# Altium footprint library lib_invensense.PcbLib: 3 footprints
Each footprint in its own frame and in the unit in brackets; x right, y up, seen from the top. Pads: shape width x height; smd on the part's side, far side on the other; paste and mask are expansions set on the pad; w line width, h text height; cw(c..) or ccw(c..) is an arc to the next point about the centre after c.
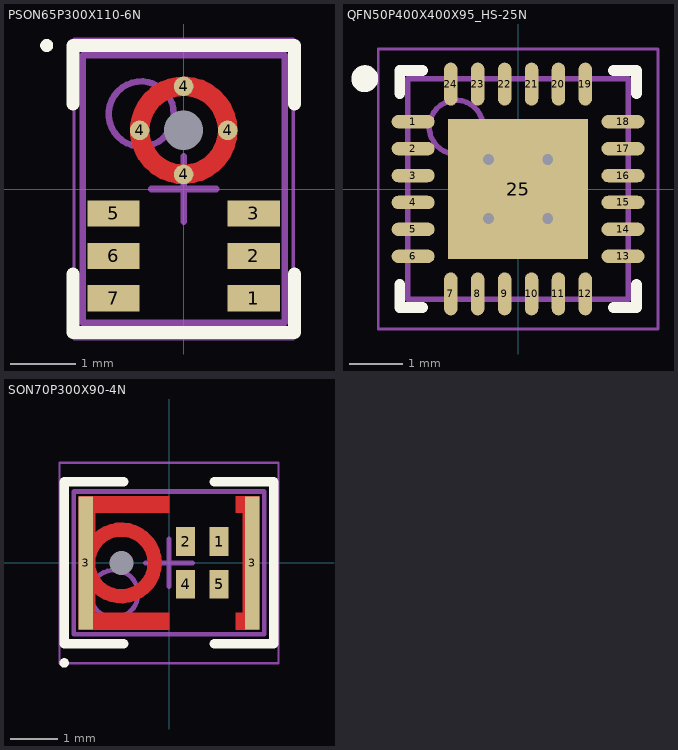
[diagram p0: the footprints below, top view; thin cyan lines are the x and y axes]

## PSON65P300X110-6N [mm] "PSON, 6-Leads, Body 4,00x3,00mm, Pitch 0,65mm, IPC Medium Density"
height 1.1
pads (11):
  rect 0.8x0.4 smd: 1(1.075,-1.675) 2(1.075,-1.025) 3(1.075,-0.375) 5(-1.075,-0.375) 6(-1.075,-1.025) 7(-1.075,-1.675)
  round 0.3 smd: 4(-0.675,0.9) 4(0,0.225) 4(0,1.575) 4(0.675,0.9)
  round 0 hole 0.6: PORT(0,0.9)
Top Layer:
  circle w0.3: c0,0.9 r0.675
Top Overlay:
  circle w0.1: c-2.1,2.2 r0.05
  lines w0.2: -1.7,-1.3 -1.7,-2.2 1.7,-2.2 1.7,-1.3 ; -1.7,1.3 -1.7,2.2 1.7,2.2 1.7,1.3
Mechanical 13:
  circle w0.1: c-0.65,1.15 r0.5
  lines w0.1: -1.55,-2.05 1.55,-2.05 1.55,2.05 -1.55,2.05 -1.55,-2.05
Mechanical 15:
  lines w0.05: -1.68,-2.3 1.68,-2.3 1.68,2.3 -1.68,2.3 -1.68,-2.3
  lines w0.1: -0.5,0 0.5,0 ; 0,-0.5 0,0.5
3D body: height 1.1, standoff 0, extent -1.55,-2.05 1.55,2.05

## QFN50P400X400X95_HS-25N [mm] "QFN, 24-Leads, Body 4.00x4.00mm, Pitch 0.50mm, Thermal Pad 2.60x2.70mm, IPC Medium Density"
height 0.95
pads (25):
  oval 0.8x0.25 smd: 1(-1.95,1.25) 2(-1.95,0.75) 3(-1.95,0.25) 4(-1.95,-0.25) 5(-1.95,-0.75) 6(-1.95,-1.25) 13(1.95,-1.25) 14(1.95,-0.75) 15(1.95,-0.25) 16(1.95,0.25) 17(1.95,0.75) 18(1.95,1.25)
  oval 0.25x0.8 smd: 7(-1.25,-1.95) 8(-0.75,-1.95) 9(-0.25,-1.95) 10(0.25,-1.95) 11(0.75,-1.95) 12(1.25,-1.95) 19(1.25,1.95) 20(0.75,1.95) 21(0.25,1.95) 22(-0.25,1.95) 23(-0.75,1.95) 24(-1.25,1.95)
  rect 2.6x2.6 smd: 25(0,0)
via 0.55,-0.55 diameter 0.5 hole 0.2
via -0.55,-0.55 diameter 0.5 hole 0.2
via 0.55,0.55 diameter 0.5 hole 0.2
via -0.55,0.55 diameter 0.5 hole 0.2
Top Overlay:
  circle w0.25: c-2.85,2.05 r0.125
  lines w0.2: -2.2,-1.775 -2.2,-2.2 -1.775,-2.2 ; -2.2,1.775 -2.2,2.2 -1.775,2.2 ; 1.775,-2.2 2.2,-2.2 2.2,-1.775 ; 1.775,2.2 2.2,2.2 2.2,1.775
Mechanical 13:
  circle w0.1: c-1.15,1.15 r0.5
  lines w0.1: -2.05,-2.05 2.05,-2.05 2.05,2.05 -2.05,2.05 -2.05,-2.05
Mechanical 15:
  lines w0.05: -2.6,-2.6 2.6,-2.6 2.6,2.6 -2.6,2.6 -2.6,-2.6
  lines w0.1: -0.5,0 0.5,0 ; 0,-0.5 0,0.5
3D body "QFN50P400X400X95_HS-25N.step": height 0.95, standoff 0, extent -2.1,-2.1 2.1,2.1

## SON70P300X90-4N [mm] "SON, 4-Leads, Body 4,00x3,00mm, Pitch 0,70mm, IPC Medium Density"
height 0.9
pads (7):
  round 0 hole 0.5 unplated: 0(-1,0)
  rect 0.4x0.6 smd: 1(1.05,0.45) 2(0.35,0.45) 4(0.35,-0.45) 5(1.05,-0.45)
  rect 0.3x2.8 smd: 3(-1.75,0) 3(1.75,0)
Top Layer:
  circle w0.3: c-1,0 r0.7
  region: 0,-1.4 -1.9,-1.4 -1.9,1.4 0,1.4 0,1.05 -1.55,1.05 -1.55,-1.05 0,-1.05
  region: 1.4,-1.4 1.4,-1.05 1.55,-1.05 1.55,1.05 1.4,1.05 1.4,1.4 1.9,1.4 1.9,-1.4
Top Overlay:
  circle w0.1: c-2.2,-2.1 r0.05
  lines w0.2: -0.95,-1.7 -2.2,-1.7 -2.2,1.7 -0.95,1.7 ; 0.95,-1.7 2.2,-1.7 2.2,1.7 0.95,1.7
Mechanical 13:
  circle w0.1: c-1.15,-0.65 r0.5
  lines w0.1: -2,-1.5 2,-1.5 2,1.5 -2,1.5 -2,-1.5
Mechanical 15:
  lines w0.05: -2.3,-2.105 2.3,-2.105 2.3,2.105 -2.3,2.105 -2.3,-2.105
  lines w0.1: -0.5,0 0.5,0 ; 0,-0.5 0,0.5
3D body: height 1, standoff 0.1, extent -1.75,-1.25 1.75,1.25
3D body: height 0.24, standoff 0.05, extent -2,-1.5 2,1.5